# EAGLE library part SHT3X (library STREAKER)
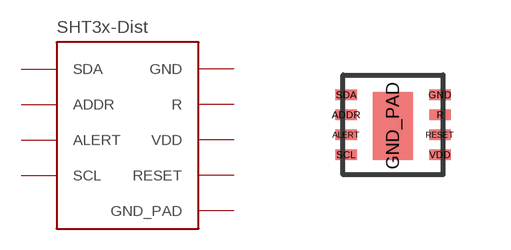
[diagram p0: symbol with the pads of SHT3X; footprint SHT3X]

Designator prefix -

## SHT3X  [SHT3X]
ADDR  ADDR
ALERT  ALERT
GND  GND
GND_PAD  GND_PAD
R  R
RESET  RESET
SCL  SCL
SDA  SDA
VDD  VDD

## Footprint SHT3X (pad centres in mm)
smd 0.55 x 0.25: ADDR -1.175,0.25; ALERT -1.175,-0.25; GND 1.175,0.75; R 1.175,0.25; RESET 1.175,-0.25; SCL -1.175,-0.75; SDA -1.175,0.75; VDD 1.175,-0.75
smd 1 x 1.7: GND_PAD 0,-0.025